# EAGLE library part 53261-0571 (library 53261-0571)
Molex PICOBLADE Series, Series Number 53261, 1.25mm Pitch 5 Way 1 Row Right Angle PCB Header, Solder Termination, 1A Source: Datasheet <https://www.molex.com/pdm_docs/sd/532610571_sd.pdf>
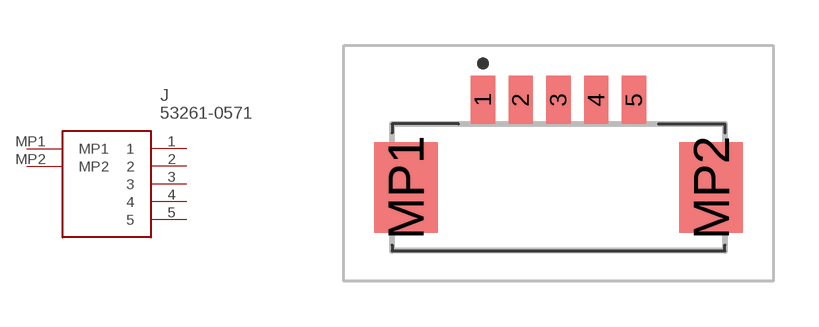
[diagram p0: symbol with the pads of 532610571TR250; footprint 532610571TR250]

Designator prefix J

## 53261-0571 (Description: Molex PICOBLADE Series, Series Number 53261, 1.25mm Pitch 5 Way 1 Row Right Angle PCB Header, Solder Termination, 1A; Height: 3.4mm; Manufacturer_Name: Molex; Manufacturer_Part_Number: 53261-0571; Mouser_Part_Number: 538-53261-0571; Mouser_Price-Stock: https://www.mouser.co.uk/ProductDetail/Molex/53261-0571?qs=Z4ettq%2Fvyk9tUNWvtq%2FUoA%3D%3D)  [532610571TR250]
1  1
2  2
3  3
4  4
5  5
MP1  MP1
MP2  MP2

## Footprint 532610571TR250 (pad centres in mm)
53261-0571
smd 0.8 x 1.6: 1 -2.5,0.8; 2 -1.25,0.8; 3 0,0.8; 4 1.25,0.8; 5 2.5,0.8
smd 2.1 x 3: MP1 -5.05,-2.1; MP2 5.05,-2.1